# EAGLE library part CRAZYREMOTE_MOLEX-89400-0820 (library CrazyRemote)
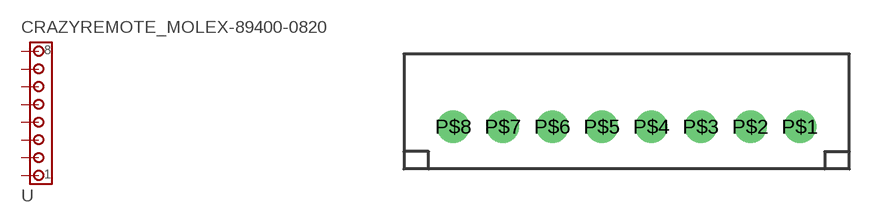
[diagram p6: symbol with the pads of CRAZYREMOTE_8940-0820; footprint CRAZYREMOTE_8940-0820]

Designator prefix -

## CRAZYREMOTE_MOLEX-89400-0820  [CRAZYREMOTE_8940-0820]
P$1  1  pas
P$2  2  pas
P$3  3  pas
P$4  4  pas
P$5  5  pas
P$6  6  pas
P$7  7  pas
P$8  8  pas

## Footprint CRAZYREMOTE_8940-0820 (pad centres in mm)
drill 0.8: P$1 7,0; P$2 5,0; P$3 3,0; P$4 1,0; P$5 -1,0; P$6 -3,0; P$7 -5,0; P$8 -7,0